# Altium schematic symbol library Power_Management.SchLib: 25 symbols
Pins are listed as number, name and electrical type; pins without a type are passive.

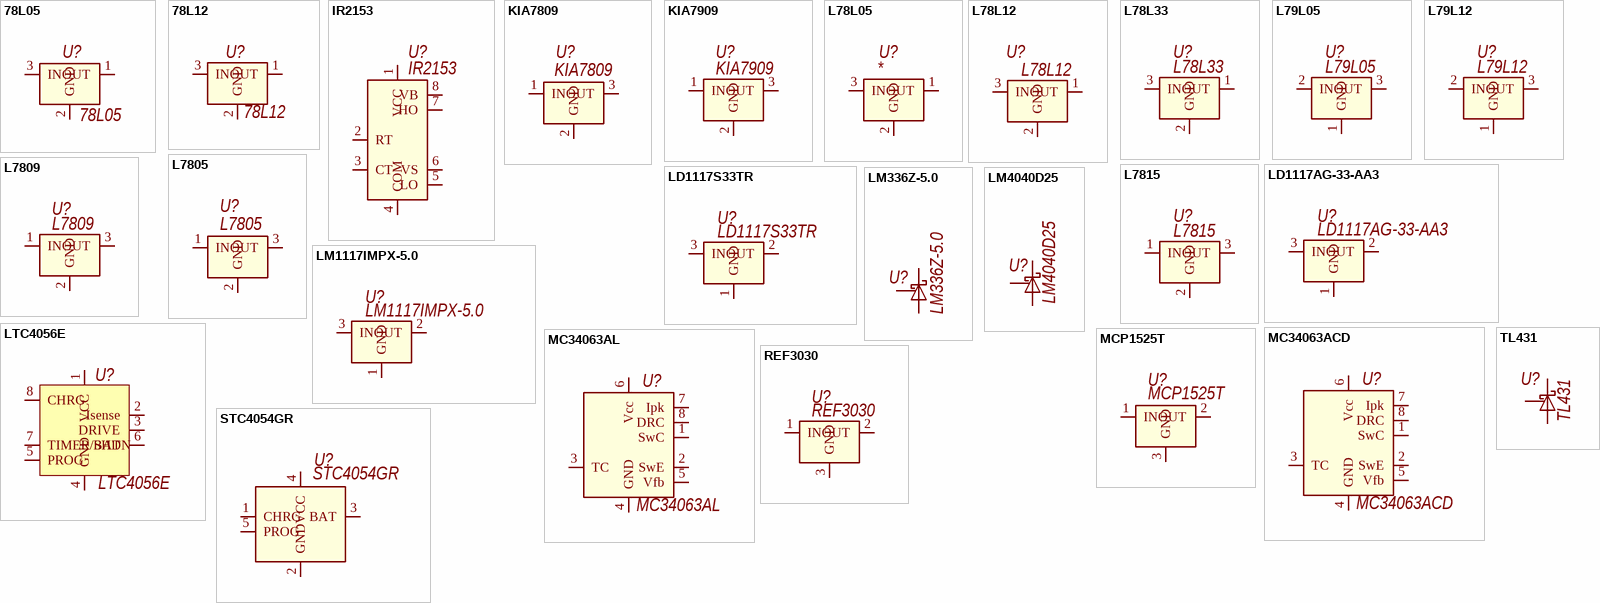
[diagram p0: symbols 78L05 to TL431]

## 78L05
designator U?
Positive 100mA 30V Linear Regulator, Fixed Output 5V, SOT-89; Model: 78L05
footprint SOT-89
pins: 1 OUT, 2 GND, 3 IN

## 78L12
designator U?
Positive 100mA 30V Linear Regulator, Fixed Output 12V, SOT-89; Model: 78L12
footprint SOT-89
pins: 1 OUT, 2 GND, 3 IN

## IR2153
designator U?
Self-Oscillating Half-Bridge Driver, 600V, PDIP-8/SOIC-8; Model: IR2153
footprint DIP-8
footprint DIP-8_Long_Pads
pins: 1 VCC, 2 RT, 3 CT, 4 COM, 5 LO, 6 VS, 7 HO, 8 VB

## KIA7809
designator U?
Positive 1A 35V Linear Regulator, Fixed Output 5V, TO-220; Model: KIA7809
footprint TO-220
pins: 1 IN, 2 GND, 3 OUT

## KIA7909
designator U?
Negative 1A 35V Linear Regulator, Fixed Output 5V, TO-220; Model: KIA7909
footprint TO-220
pins: 1 IN, 2 GND, 3 OUT

## L78L05
designator U?
Positive 100mA 30V Linear Regulator, Fixed Output 5V, TO-92; Model: *
footprint TO-92
footprint SOT-89
pins: 1 OUT, 2 GND, 3 IN

## L78L12
designator U?
Positive 100mA 30V Linear Regulator, Fixed Output 5V, TO-92; Model: L78L12
footprint TO-92
footprint SOT-89
pins: 1 OUT, 2 GND, 3 IN

## L78L33
designator U?
Positive 100mA 30V Linear Regulator, Fixed Output 3.3V, TO-92; Model: L78L33
footprint TO-92
footprint SOT-89
pins: 1 OUT, 2 GND, 3 IN

## L79L05
designator U?
Negative 100mA -30V Linear Regulator, Fixed Output -5V, SOT-89; Model: L79L05
footprint TO-92
footprint SOT-89
pins: 1 GND, 2 IN, 3 OUT

## L79L12
designator U?
Negative 100mA -30V Linear Regulator, Fixed Output -12V, SOT-89; Model: L79L12
footprint TO-92
footprint SOT-89
pins: 1 GND, 2 IN, 3 OUT

## L7805
designator U?
Positive 1.5A 35V Linear Regulator, Fixed Output 5V, TO-220/TO-263/TO-252; Model: L7805
footprint TO-220
pins: 1 IN, 2 GND, 3 OUT

## L7809
designator U?
Positive 1.5A 35V Linear Regulator, Fixed Output 5V, TO-220/TO-263/TO-252; Model: L7809
footprint TO-220
pins: 1 IN, 2 GND, 3 OUT

## L7815
designator U?
Positive 1.5A 35V Linear Regulator, Fixed Output 5V, TO-220/TO-263/TO-252; Model: L7815
footprint TO-220
pins: 1 IN, 2 GND, 3 OUT

## LD1117AG-33-AA3
designator U?
1A Low Dropout regulator, positive, 3.3V fixed output, SOT-223; Model: LD1117AG-33-AA3
footprint SOT-223
pins: 1 GND, 2 OUT, 3 IN

## LD1117S33TR
designator U?
1A Low Dropout regulator, positive, 3.3V fixed output, SOT-223; Model: LD1117S33TR
footprint SOT-223
pins: 1 GND, 2 OUT, 3 IN

## LM336Z-5.0
designator U?
Precision 5.0V shunt regulator diodes; Model: LM336Z-5.0
footprint TO-92
pins: 1, 2, 3

## LM1117IMPX-5.0
designator U?
1A Low Dropout regulator, positive, 5.0V fixed output, SOT-223; Model: LM1117IMPX-5.0
footprint SOT-223
pins: 1 GND, 2 OUT, 3 IN

## LM4040D25
designator U?
Fixed voltage, 45-A, precision micropower shunt voltage reference 3-SOT-23 -40 to 85; Model: LM4040D25
footprint SOT-23
pins: 1, 2, 3

## LTC4056E
designator U?
IC CHARGR BATTERY L-ION TSOT23-8; Model: LTC4056E
footprint SOT-23-8
pins: 1 VCC, 2 Isense, 3 DRIVE, 4 GND, 5 PROG, 6 BAT, 7 TIMER/SHDN, 8 CHRG

## MC34063ACD
designator U?
Buck, Boost Switching Regulator IC Positive or Negative Adjustable 1.25V 1 Output 1.5A (Switch) 8-SOIC (0.154", 3.90mm Width); Model: MC34063ACD
footprint SOIC-8
pins: 1 SwC, 2 SwE, 3 TC, 4 GND, 5 Vfb, 6 Vcc, 7 Ipk, 8 DRC

## MC34063AL
designator U?
Buck, Boost Switching Regulator IC Positive or Negative Adjustable 1.25V 1 Output 1.5A (Switch) 8-DIP; Model: MC34063AL
footprint DIP-8
footprint DIP-8_Long_Pads
pins: 1 SwC, 2 SwE, 3 TC, 4 GND, 5 Vfb, 6 Vcc, 7 Ipk, 8 DRC

## MCP1525T
designator U?
2.5v Precision Voltage Reference; Model: MCP1525T
footprint SOT-23
pins: 1 IN, 2 OUT, 3 GND

## REF3030
designator U?
3-V, 50-ppm/C, 50-A in 3-pin SOT-23 package series (bandgap) voltage reference 3-SOT-23 -40 to 125; Model: REF3030
footprint SOT-23
pins: 1 IN, 2 OUT, 3 GND

## STC4054GR
designator U?
800mA Standalone linear Li-Ion Battery charger with thermal regulation; Model: STC4054GR
footprint SOT-23-5
pins: 1 CHRG, 2 GND, 3 BAT, 4 VCC, 5 PROG

## TL431
designator U?
Adjustable precision shunt regulator 8-SOIC; Model: TL431
footprint SOIC-8
pins: 1, 2, 8